# EAGLE library part PINHD-2X40 (library pinhead-1.27)
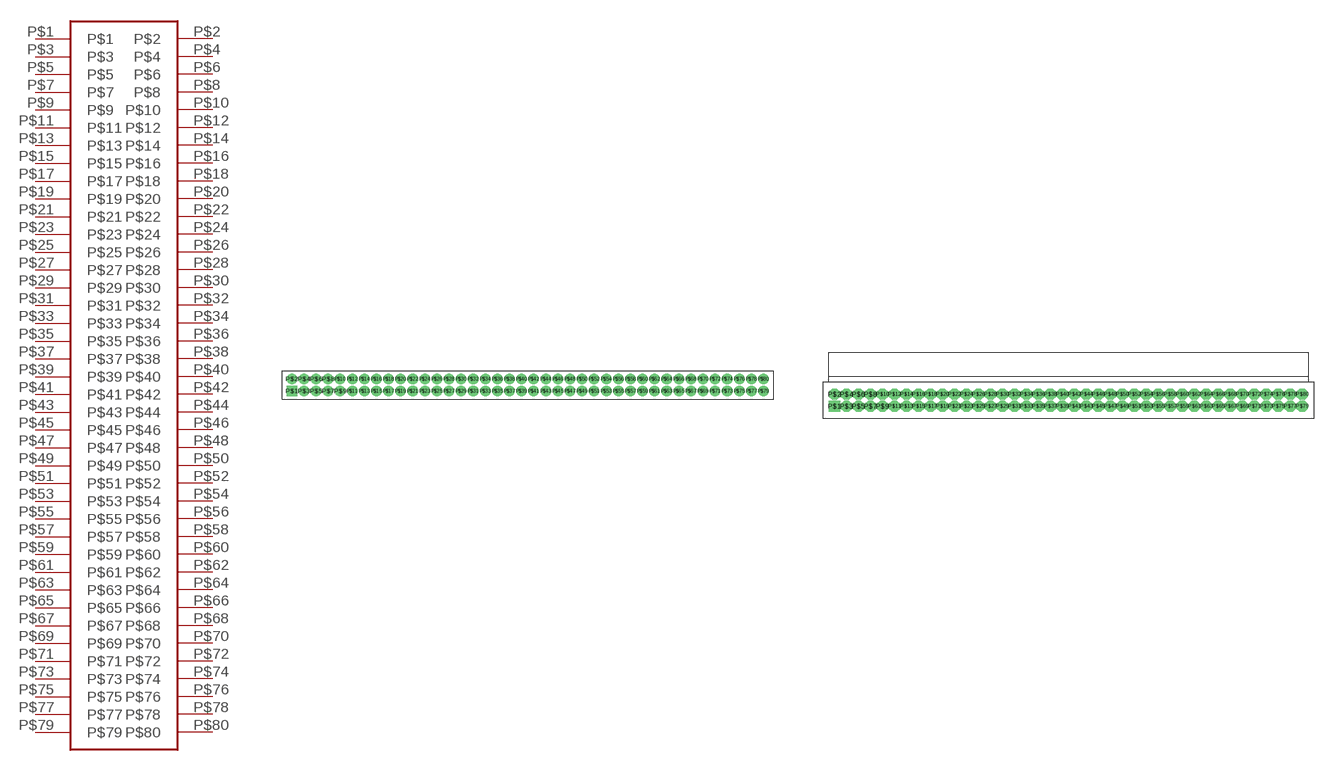
[diagram p0: symbol with the pads of FEMALE-2X40; footprints FEMALE-2X40, MALE-2X40]

Designator prefix -

## PINHD-2X40FEMALE  [FEMALE-2X40]
P$1  P$1
P$2  P$2
P$3  P$3
P$4  P$4
P$5  P$5
P$6  P$6
P$7  P$7
P$8  P$8
P$9  P$9
P$10  P$10
P$11  P$11
P$12  P$12
P$13  P$13
P$14  P$14
P$15  P$15
P$16  P$16
P$17  P$17
P$18  P$18
P$19  P$19
P$20  P$20
P$21  P$21
P$22  P$22
P$23  P$23
P$24  P$24
P$25  P$25
P$26  P$26
P$27  P$27
P$28  P$28
P$29  P$29
P$30  P$30
P$31  P$31
P$32  P$32
P$33  P$33
P$34  P$34
P$35  P$35
P$36  P$36
P$37  P$37
P$38  P$38
P$39  P$39
P$40  P$40
P$41  P$41
P$42  P$42
P$43  P$43
P$44  P$44
P$45  P$45
P$46  P$46
P$47  P$47
P$48  P$48
P$49  P$49
P$50  P$50
P$51  P$51
P$52  P$52
P$53  P$53
P$54  P$54
P$55  P$55
P$56  P$56
P$57  P$57
P$58  P$58
P$59  P$59
P$60  P$60
P$61  P$61
P$62  P$62
P$63  P$63
P$64  P$64
P$65  P$65
P$66  P$66
P$67  P$67
P$68  P$68
P$69  P$69
P$70  P$70
P$71  P$71
P$72  P$72
P$73  P$73
P$74  P$74
P$75  P$75
P$76  P$76
P$77  P$77
P$78  P$78
P$79  P$79
P$80  P$80

## PINHD-2X40MALE  [MALE-2X40]
Pads as for FEMALE-2X40

## Footprint FEMALE-2X40 (pad centres in mm)
drill 0.6 pad 1.016 square: P$1 1,0.873
drill 0.6 pad 1.016: P$2 1,2.143; P$3 2.27,0.873; P$4 2.27,2.143; P$5 3.54,0.873; P$6 3.54,2.143; P$7 4.81,0.873; P$8 4.81,2.143; P$9 6.08,0.873; P$10 6.08,2.143; P$11 7.35,0.873; P$12 7.35,2.143; P$13 8.62,0.873; P$14 8.62,2.143; P$15 9.89,0.873; P$16 9.89,2.143; P$17 11.16,0.873; P$18 11.16,2.143; P$19 12.43,0.873; P$20 12.43,2.143; P$21 13.7,0.873; P$22 13.7,2.143; P$23 14.97,0.873; P$24 14.97,2.143; P$25 16.24,0.873; P$26 16.24,2.143; P$27 17.51,0.873; P$28 17.51,2.143; P$29 18.78,0.873; P$30 18.78,2.143; P$31 20.05,0.873; P$32 20.05,2.143; P$33 21.32,0.873; P$34 21.32,2.143; P$35 22.59,0.873; P$36 22.59,2.143; P$37 23.86,0.873; P$38 23.86,2.143; P$39 25.13,0.873; P$40 25.13,2.143; P$41 26.4,0.873; P$42 26.4,2.143; P$43 27.67,0.873; P$44 27.67,2.143; P$45 28.94,0.873; P$46 28.94,2.143; P$47 30.21,0.873; P$48 30.21,2.143; P$49 31.48,0.873; P$50 31.48,2.143; P$51 32.75,0.873; P$52 32.75,2.143; P$53 34.02,0.873; P$54 34.02,2.143; P$55 35.29,0.873; P$56 35.29,2.143; P$57 36.56,0.873; P$58 36.56,2.143; P$59 37.83,0.873; P$60 37.83,2.143; P$61 39.1,0.873; P$62 39.1,2.143; P$63 40.37,0.873; P$64 40.37,2.143; P$65 41.64,0.873; P$66 41.64,2.143; P$67 42.91,0.873; P$68 42.91,2.143; P$69 44.18,0.873; P$70 44.18,2.143; P$71 45.45,0.873; P$72 45.45,2.143; P$73 46.72,0.873; P$74 46.72,2.143; P$75 47.99,0.873; P$76 47.99,2.143; P$77 49.26,0.873; P$78 49.26,2.143; P$79 50.53,0.873; P$80 50.53,2.143

## Footprint MALE-2X40 (pad centres in mm)
drill 0.7 pad 1.016 square: P$1 -0.016,-0.016
drill 0.7 pad 1.016 octagon: P$2 -0.016,1.254; P$3 1.254,-0.016; P$4 1.254,1.254; P$5 2.524,-0.016; P$6 2.524,1.254; P$7 3.794,-0.016; P$8 3.794,1.254; P$9 5.064,-0.016; P$10 5.064,1.254; P$11 6.334,-0.016; P$12 6.334,1.254; P$13 7.604,-0.016; P$14 7.604,1.254; P$15 8.874,-0.016; P$16 8.874,1.254; P$17 10.144,-0.016; P$18 10.144,1.254; P$19 11.414,-0.016; P$20 11.414,1.254; P$21 12.684,-0.016; P$22 12.684,1.254; P$23 13.954,-0.016; P$24 13.954,1.254; P$25 15.224,-0.016; P$26 15.224,1.254; P$27 16.494,-0.016; P$28 16.494,1.254; P$29 17.764,-0.016; P$30 17.764,1.254; P$31 19.034,-0.016; P$32 19.034,1.254; P$33 20.304,-0.016; P$34 20.304,1.254; P$35 21.574,-0.016; P$36 21.574,1.254; P$37 22.844,-0.016; P$38 22.844,1.254; P$39 24.114,-0.016; P$40 24.114,1.254; P$41 25.384,-0.016; P$42 25.384,1.254; P$43 26.654,-0.016; P$44 26.654,1.254; P$45 27.924,-0.016; P$46 27.924,1.254; P$47 29.194,-0.016; P$48 29.194,1.254; P$49 30.464,-0.016; P$50 30.464,1.254; P$51 31.734,-0.016; P$52 31.734,1.254; P$53 33.004,-0.016; P$54 33.004,1.254; P$55 34.274,-0.016; P$56 34.274,1.254; P$57 35.544,-0.016; P$58 35.544,1.254; P$59 36.814,-0.016; P$60 36.814,1.254; P$61 38.084,-0.016; P$62 38.084,1.254; P$63 39.354,-0.016; P$64 39.354,1.254; P$65 40.624,-0.016; P$66 40.624,1.254; P$67 41.894,-0.016; P$68 41.894,1.254; P$69 43.164,-0.016; P$70 43.164,1.254; P$71 44.434,-0.016; P$72 44.434,1.254; P$73 45.704,-0.016; P$74 45.704,1.254; P$75 46.974,-0.016; P$76 46.974,1.254; P$77 48.244,-0.016; P$78 48.244,1.254; P$79 49.514,-0.016; P$80 49.514,1.254